# Altium footprint library PcbLib1.PcbLib: 68 footprints (part 4 of 5)
Each footprint in its own frame and in the unit in brackets; x right, y up, seen from the top. Pads: shape width x height; smd on the part's side, far side on the other; paste and mask are expansions set on the pad; w line width, h text height; cw(c..) or ccw(c..) is an arc to the next point about the centre after c.
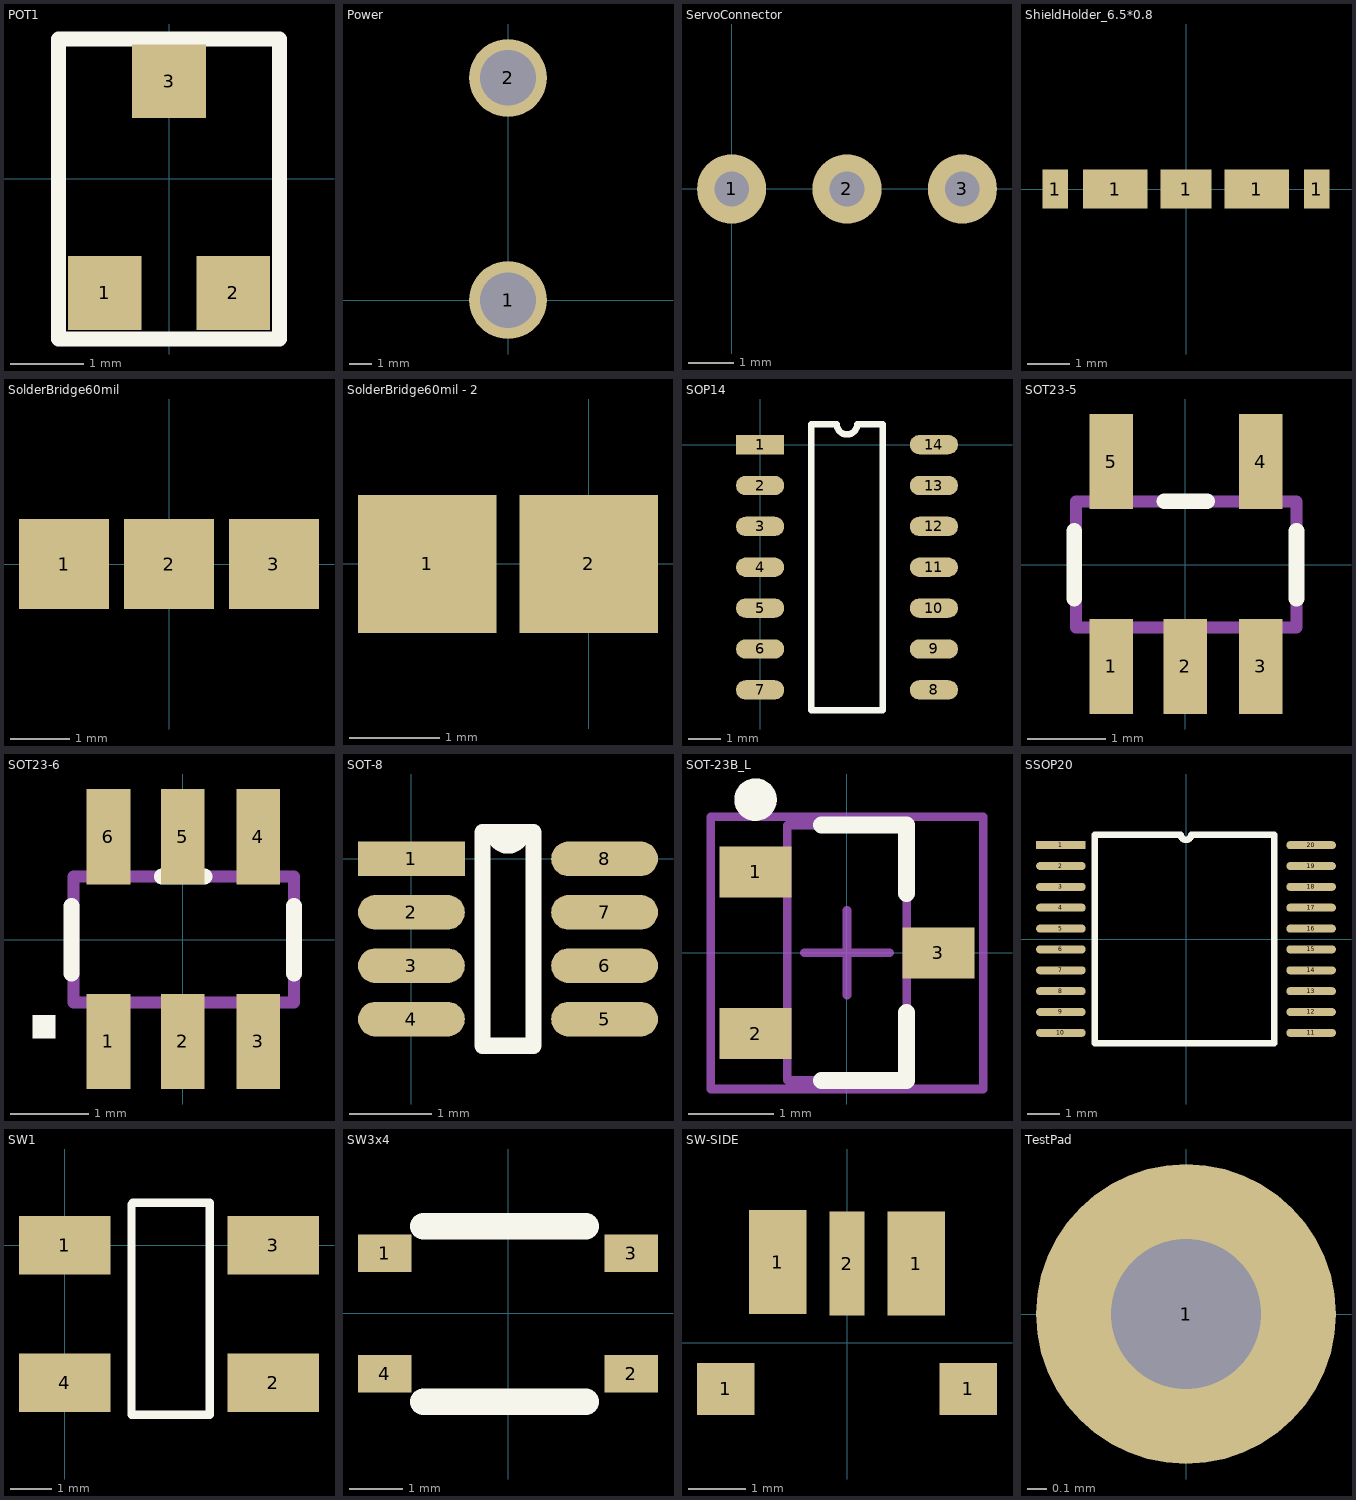
[diagram p3: the footprints below, top view; thin cyan lines are the x and y axes]

## POT1 [mm]
pads (3):
  rect 1x1 smd: 1(-0.875,-1.55) 2(0.875,-1.55) 3(0,1.325)
Top Overlay:
  lines w0.2: -1.5,-2.175 -1.5,1.9 1.5,1.9 1.5,-2.175 -1.5,-2.175

## Power [mm]
pads (2):
  round 3.5 hole 2.5: 1(0,0) 2(0,10)

## ServoConnector [mil]
pads (3):
  round 60 hole 30: 1(0,0) 2(100,0) 3(200,0)

## ShieldHolder_6.5*0.8 [mm]
pads (5):
  rect 0.6x0.9 smd: 1(-3.05,0) 1(3.05,0)
  rect 1.5x0.9 smd: 1(-1.65,0) 1(1.65,0)
  rect 1.2x0.9 smd: 1(0,0)

## SolderBridge60mil [mil]
pads (3):
  rect 60x60 smd: 1(-70,0) 2(0,0) 3(70,0)

## SolderBridge60mil - 2 [mil]
pads (2):
  rect 60x60 smd: 1(-70,0) 2(0,0)

## SOP14 [mm]
pads (14):
  rect 1.5x0.6 smd: 1(0,0)
  oval 1.5x0.6 smd: 2(0,-1.27) 3(0,-2.54) 4(0,-3.81) 5(0,-5.08) 6(0,-6.35) 7(0,-7.62) 8(5.4,-7.62) 9(5.4,-6.35) 10(5.4,-5.08) 11(5.4,-3.81) 12(5.4,-2.54) 13(5.4,-1.27) 14(5.4,0)
Top Overlay:
  lines w0.2: 1.585,-8.255 3.815,-8.255 3.815,0.635 3.017,0.635 cw(c2.7,0.635) 2.382,0.635 1.585,0.635 1.585,-8.255

## SOT23-5 [mil] "SOT23-5"
pads (5):
  rect 22x48 smd: 1(-37.4,-51.19) 2(0,-51.19) 3(38,-51.19) 4(38,52) 5(-37.4,52)
Top Overlay:
  lines w8: -56,-16.91 -56,17 ; -10.57,32 11,32 ; 56,-16.91 56,17
Mechanical 16:
  rectangle: -47.24,34 -27.56,60
  rectangle: 28,34 48,60
  rectangle: 28,-59.06 48,-33.46
  rectangle: -9.84,-59.06 10,-33.46
  rectangle: -47.24,-59.06 -27.56,-33.46
  lines w1: -55.12,-31.5 -55.12,32 56,32 56,-31.5 -55.12,-31.5
  lines w6: -55.12,-31.5 -55.12,32 56,32 56,-31.5 -55.12,-31.5

## SOT23-6 [mil] "SOT23-5"
pads (6):
  rect 22x48 smd: 1(-37.4,-51.19) 2(0,-51.19) 3(38,-51.19) 4(38,52) 5(0,52.01) 6(-37.4,52)
Top Overlay:
  rectangle: -75.81,-49.81 -64,-38
  lines w8: -56,-16.91 -56,17 ; -10.57,32 11,32 ; 56,-16.91 56,17
Mechanical 16:
  rectangle: -47.24,-59.06 -27.56,-33.46
  rectangle: -9.84,-59.06 10,-33.46
  rectangle: 28,-59.06 48,-33.46
  rectangle: 28,34 48,60
  rectangle: -47.24,34 -27.56,60
  lines w1: -55.12,-31.5 56,-31.5 56,32 -55.12,32 -55.12,-31.5
  lines w6: -55.12,-31.5 56,-31.5 56,32 -55.12,32 -55.12,-31.5

## SOT-8 [mm]
pads (8):
  rect 1.3x0.42 smd: 1(0,0)
  oval 1.3x0.42 smd: 2(0,-0.65) 3(0,-1.3) 4(0,-1.95) 5(2.35,-1.95) 6(2.35,-1.3) 7(2.35,-0.65) 8(2.35,0)
Top Overlay:
  lines w0.2: 0.865,-2.275 0.865,0.325 1.337,0.325 cw(c1.175,0.325) 1.012,0.325 1.485,0.325 1.485,-2.275 0.865,-2.275

## SOT-23B_L [mm] "SOT23, 3-Leads, Body 2.9x1.3mm, Pitch 0.95mm, Lead Span 2.4mm, IPC High Density"
height 1.14
pads (3):
  rect 0.85x0.6 smd: 1(-1.075,0.95) 2(-1.075,-0.95) 3(1.075,0)
Top Overlay:
  circle w0.25: c-1.075,1.8 r0.125
  lines w0.2: -0.3,-1.5 0.7,-1.5 0.7,-0.7 ; -0.3,1.5 0.7,1.5 0.7,0.7
Mechanical 13:
  lines w0.1: -0.7,-1.5 -0.7,1.5 0.7,1.5 0.7,-1.5 -0.7,-1.5
Mechanical 15:
  lines w0.1: -0.5,0 0.5,0 ; 0,-0.5 0,0.5 ; -1.6,-1.6 -1.6,1.6 1.6,1.6 1.6,-1.6 -1.6,-1.6
3D body: height 1.14, standoff 0, extent -0.7,-1.5 0.7,1.5

## SSOP20 [mm]
pads (20):
  rect 1.55x0.25 smd: 1(-3.9,2.925)
  oval 1.55x0.25 smd: 2(-3.9,2.275) 3(-3.9,1.625) 4(-3.9,0.975) 5(-3.9,0.325) 6(-3.9,-0.325) 7(-3.9,-0.975) 8(-3.9,-1.625) 9(-3.9,-2.275) 10(-3.9,-2.925) 11(3.9,-2.925) 12(3.9,-2.275) 13(3.9,-1.625) 14(3.9,-0.975) 15(3.9,-0.325) 16(3.9,0.325) 17(3.9,0.975) 18(3.9,1.625) 19(3.9,2.275) 20(3.9,2.925)
Top Overlay:
  lines w0.2: -2.85,-3.25 -2.85,3.25 -0.162,3.25 ccw(c0,3.25) 0.162,3.25 2.75,3.25 2.75,-3.25 -2.85,-3.25

## SW1 [mm]
pads (4):
  rect 2.2x1.4 smd: 1(0,0) 2(5,-3.3) 3(5,0) 4(0,-3.3)
Top Overlay:
  lines w0.127: 1.6,0.986 1.63,1.016
  lines w0.2: 1.6,0.986 1.6,-4.064 3.475,-4.064 3.475,1.016 1.63,1.016

## SW3x4 [mm]
pads (4):
  rect 1x0.7 smd: 1(-2.3,1.125) 2(2.3,-1.125) 3(2.3,1.125) 4(-2.3,-1.125)
Top Overlay:
  lines w0.5: -1.575,-1.65 1.45,-1.65 ; -1.575,1.625 1.45,1.625
3D body: height 2.6, standoff 0, extent -2,-1.5 2,1.5

## SW-SIDE [mm]
pads (5):
  rect 1x0.9 smd: 1(-2.1,-0.8) 1(2.1,-0.8)
  rect 1x1.8 smd: 1(-1.2,1.4) 1(1.2,1.375)
  rect 0.6x1.8 smd: 2(0,1.375)
3D body: height 3.3, standoff 0, extent -2.25,-1.275 2.25,1.275
3D body: height 2.5, standoff 0.8, extent -0.8,-1.825 0.9,-1.3

## TestPad [mil]
pads (1):
  round 60 hole 30: 1(0,0)